# EAGLE library part AS-ITM-00070 (library tinycircuits)
3-AXIS ACCELEROMOETER
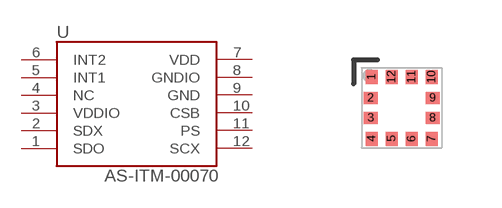
[diagram p24: symbol with the pads of 3-AXIS_ACCELEROMETER; footprint 3-AXIS_ACCELEROMETER]

Designator prefix U

## AS-ITM-00070 (PARTNO: AS-ITM-00070; PNPROTATION: 90; VALUE: BMA250)  [3-AXIS_ACCELEROMETER]
1  SDO
2  SDX
3  VDDIO
4  NC
5  INT1
6  INT2
7  VDD
8  GNDIO
9  GND
10  CSB
11  PS
12  SCX

## Footprint 3-AXIS_ACCELEROMETER (pad centres in mm)
smd 0.3 x 0.35: 1 -0.75,0.775; 4 -0.75,-0.775; 5 -0.25,-0.775; 6 0.25,-0.775; 7 0.75,-0.775; 10 0.75,0.775; 11 0.25,0.775; 12 -0.25,0.775
smd 0.35 x 0.3: 2 -0.775,0.25; 3 -0.775,-0.25; 8 0.775,-0.25; 9 0.775,0.25